# Altium schematic symbol library DLW21SN491XQ2L.SchLib: 1 symbol
Pins are listed as number, name and electrical type; pins without a type are passive.

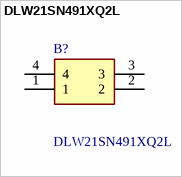
[diagram p0: symbol DLW21SN491XQ2L]

## DLW21SN491XQ2L
designator B?
DLW21SN_Q2L Series EMI Suppression Filter 490 at 100MHz 190mA 20V; Manufacturer_Name: Murata Electronics; Geometry.Height: 1.4mm; Mouser Part Number: 81-DLW21SN491XQ2L; Mouser Price/Stock: https://www.mouser.co.uk/ProductDetail/Murata-Electronics/DLW21SN491XQ2L?qs=AKMysZHk1FUIqrvUTtgYeA%3D%3D; Manufacturer_Part_Number: DLW21SN491XQ2L; Datasheet Link: https://www.murata.com/en-us/products/productdetail?partno=DLW21SN491XQ2%23
footprint DLW21SN121HQ2L
pins: 1, 2, 3, 4